# Altium schematic symbol library LT1317.SchLib: 1 symbol
Pins are listed as number, name and electrical type; pins without a type are passive.

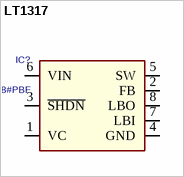
[diagram p0: symbol LT1317]

## LT1317
designator IC?, comment LT1317CMS8#PBF
PDF: http://www.linear.com/docs/2963; BUY_LINK: http://www.digikey.com/product-detail/en/LT1317CMS8%23PBF/LT1317CMS8%23PBF-ND/889763; ID: LT1317CMS8#PBF; PRICE: 4.90000
footprint MSOP8
pins: 1 VC, 2 FB, 3 ~{SH}~{DN}, 4 GND, 5 SW, 6 VIN, 7 LBI, 8 LBO